# EAGLE library part NSI8121N0 (library NSI8121N0)
Up to 5000VRMS Insulation voltage Source: Datasheet <https://datasheet.lcsc.com/lcsc/1912111437_NOVOSENSE-NSI8121N0_C399513.pdf>
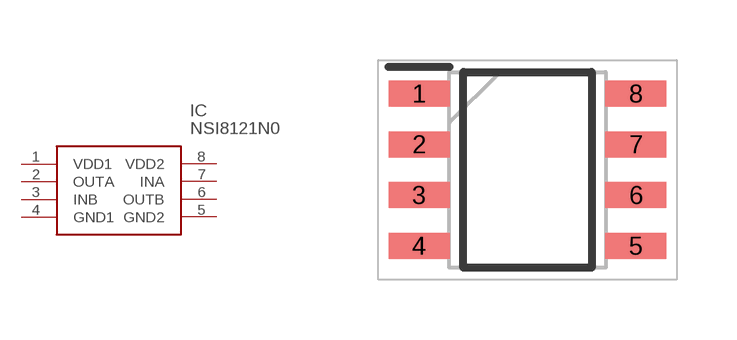
[diagram p0: symbol with the pads of SOIC127P600X175-8N; footprint SOIC127P600X175-8N]

Designator prefix IC

## NSI8121N0 (Description: Up to 5000VRMS Insulation voltage; Height: 1.75mm; Manufacturer_Name: Novosense; Manufacturer_Part_Number: NSI8121N0)  [SOIC127P600X175-8N]
1  VDD1
2  OUTA
3  INB
4  GND1
5  GND2
6  OUTB
7  INA
8  VDD2

## Footprint SOIC127P600X175-8N (pad centres in mm)
NSI8121N0
smd 1.525 x 0.65: 1 -2.712,1.905; 2 -2.712,0.635; 3 -2.712,-0.635; 4 -2.712,-1.905; 5 2.712,-1.905; 6 2.712,-0.635; 7 2.712,0.635; 8 2.712,1.905